# EAGLE library part 2QSP20-10E (library resistor-bourns)
BOURNS RESISTOR NETWORK
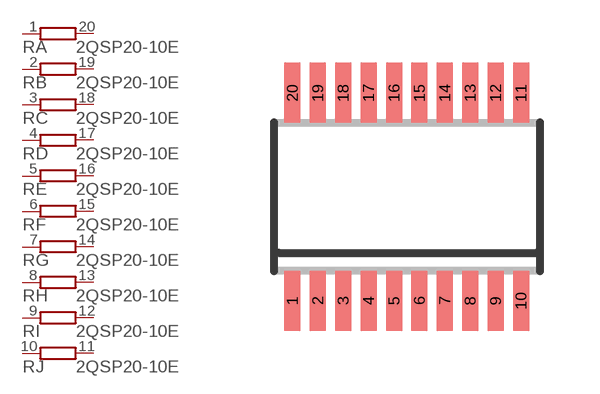
[diagram p14: symbol with the pads of 2QSP20; footprint 2QSP20]

Designator prefix R; gates A=R1NV B=R1NV C=R1NV D=R1NV E=R1NV F=R1NV G=R1NV H=R1NV I=R1NV J=R1NV

## 2QSP20-10E (OC_FARNELL: unknown; OC_NEWARK: unknown)  [2QSP20]
1  A:1  pas
2  B:1  pas
3  C:1  pas
4  D:1  pas
5  E:1  pas
6  F:1  pas
7  G:1  pas
8  H:1  pas
9  I:1  pas
10  J:1  pas
11  J:2  pas
12  I:2  pas
13  H:2  pas
14  G:2  pas
15  F:2  pas
16  E:2  pas
17  D:2  pas
18  C:2  pas
19  B:2  pas
20  A:2  pas

## Footprint 2QSP20 (pad centres in mm)
BOURNS RESISTOR NETWORK
smd 0.4 x 1.5: 1 -2.223,-2.6; 2 -1.588,-2.6; 3 -0.953,-2.6; 4 -0.318,-2.6; 5 0.318,-2.6; 6 0.953,-2.6; 7 1.588,-2.6; 8 2.223,-2.6; 9 2.858,-2.6; 10 3.493,-2.6; 11 3.493,2.6; 12 2.858,2.6; 13 2.223,2.6; 14 1.588,2.6; 15 0.953,2.6; 16 0.318,2.6; 17 -0.318,2.6; 18 -0.953,2.6; 19 -1.588,2.6; 20 -2.223,2.6